# EAGLE library part RJ45_DIRECT (library galgas_lib)
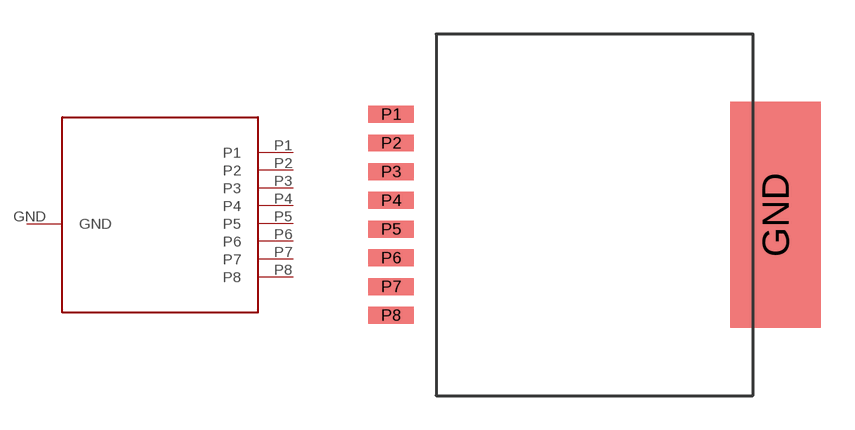
[diagram p0: symbol with the pads of RJ45_DIRECT; footprint RJ45_DIRECT]

Designator prefix -

## RJ45_DIRECT  [RJ45_DIRECT]
GND  GND  pwr
P1  P1
P2  P2
P3  P3
P4  P4
P5  P5
P6  P6
P7  P7
P8  P8

## Footprint RJ45_DIRECT (pad centres in mm)
smd 4 x 10: GND 8,0
smd 2 x 0.75: P1 -9,4.445; P2 -9,3.175; P3 -9,1.905; P4 -9,0.635; P5 -9,-0.635; P6 -9,-1.905; P7 -9,-3.175; P8 -9,-4.445